# EAGLE library part 8P4R-0603X4 (library resistor-network)
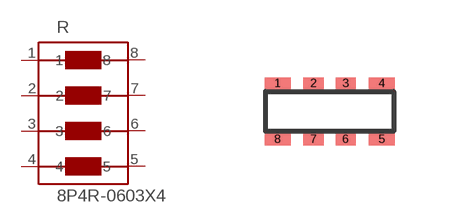
[diagram p0: symbol with the pads of 0603X4; footprint 0603X4]

Designator prefix R

## 8P4R-0603X4  [0603X4]
1  1
2  2
3  3
4  4
5  5
6  6
7  7
8  8

## Footprint 0603X4 (pad centres in mm)
smd 0.65 x 0.3: 1 -1.24,0.692; 4 1.36,0.692; 5 1.36,-0.708; 8 -1.24,-0.708
smd 0.5 x 0.3: 2 -0.34,0.692; 3 0.46,0.692; 6 0.46,-0.708; 7 -0.34,-0.708